# Altium footprint library DC_motor_lib.PcbLib: 21 footprints (part 2 of 2)
Each footprint in its own frame and in the unit in brackets; x right, y up, seen from the top. Pads: shape width x height; smd on the part's side, far side on the other; paste and mask are expansions set on the pad; w line width, h text height; cw(c..) or ccw(c..) is an arc to the next point about the centre after c.
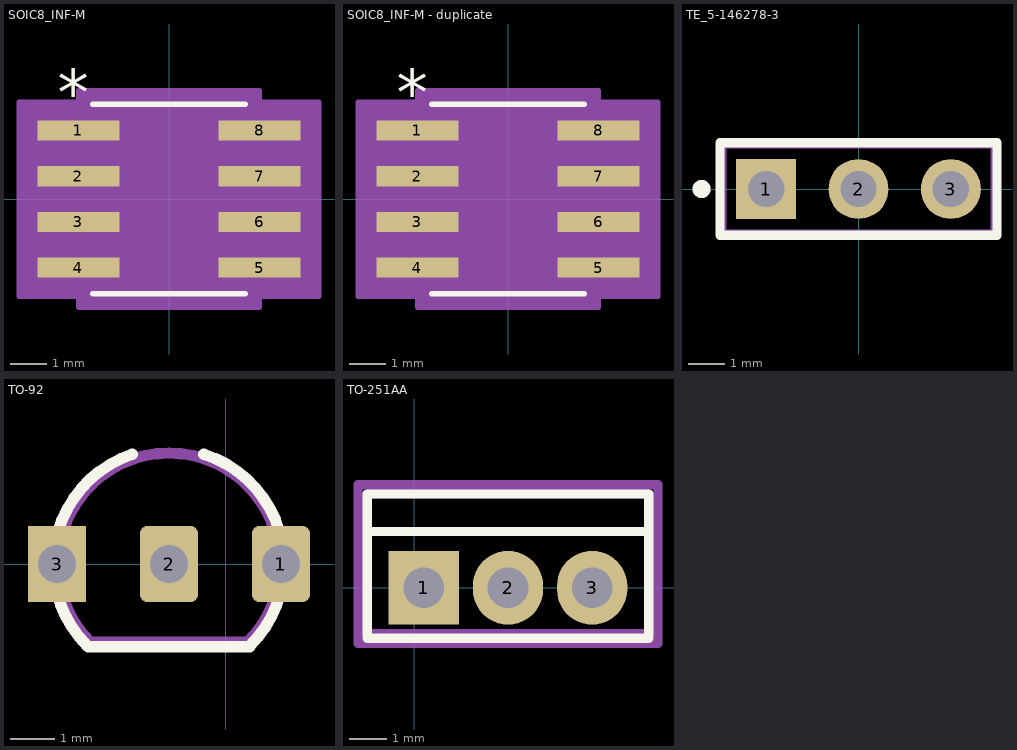
[diagram p1: the footprints below, top view; thin cyan lines are the x and y axes]

## SOIC8_INF-M [mil]
pads (8):
  rect 90x22 smd paste+0 mask+0: 1(-99,75) 2(-99,25) 3(-99,-25) 4(-99,-75) 5(99,-75) 6(99,-25) 7(99,25) 8(99,75)
Top Overlay:
  lines w6: -83.5,-103.5 83.5,-103.5 ; -83.5,103.5 83.5,103.5
  text "*" at -121.5,92 h50
Top 3D Body:
  lines w0: -12,98.5 ccw(c0,98.5) 12,98.5
  lines w1: -122,-85 -78.5,-85 -78.5,-65 -122,-65 -122,-85 ; -122,-35 -78.5,-35 -78.5,-15 -122,-15 -122,-35 ; -122,15 -78.5,15 -78.5,35 -122,35 -122,15 ; -122,65 -78.5,65 -78.5,85 -122,85 -122,65 ; -78.5,-98.5 -78.5,98.5 78.5,98.5 78.5,-98.5 -78.5,-98.5 ; 78.5,-85 122,-85 122,-65 78.5,-65 78.5,-85 ; 78.5,-35 122,-35 122,-15 78.5,-15 78.5,-35 ; 78.5,15 122,15 122,35 78.5,35 78.5,15 ; 78.5,65 122,65 122,85 78.5,85 78.5,65
  text "*" at -76,45.5 h50
Top Courtyard:
  region: -98.5,-106 -164,-106 -164,106 -98.5,106 -98.5,118.5 98.5,118.5 98.5,106 164,106 164,-106 98.5,-106 98.5,-118.5 -98.5,-118.5
  lines w6: -164,-106 -98.5,-106 -98.5,-118.5 98.5,-118.5 98.5,-106 164,-106 164,106 98.5,106 98.5,118.5 -98.5,118.5 -98.5,106 -164,106 -164,-106
3D body "SOIC8_INF.step": height 69.09, standoff 0, extent -122.01,-98.5 122.01,98.5

## SOIC8_INF-M - duplicate [mil]
pads (8):
  rect 90x22 smd paste+0 mask+0: 1(-99,75) 2(-99,25) 3(-99,-25) 4(-99,-75) 5(99,-75) 6(99,-25) 7(99,25) 8(99,75)
Top Overlay:
  lines w6: -83.5,-103.5 83.5,-103.5 ; -83.5,103.5 83.5,103.5
  text "*" at -121.5,92 h50
Top 3D Body:
  lines w0: -12,98.5 ccw(c0,98.5) 12,98.5
  lines w1: -122,-85 -122,-65 -78.5,-65 -78.5,-85 -122,-85 ; -122,-35 -122,-15 -78.5,-15 -78.5,-35 -122,-35 ; -122,15 -122,35 -78.5,35 -78.5,15 -122,15 ; -122,65 -122,85 -78.5,85 -78.5,65 -122,65 ; -78.5,-98.5 78.5,-98.5 78.5,98.5 -78.5,98.5 -78.5,-98.5 ; 78.5,-85 78.5,-65 122,-65 122,-85 78.5,-85 ; 78.5,-35 78.5,-15 122,-15 122,-35 78.5,-35 ; 78.5,15 78.5,35 122,35 122,15 78.5,15 ; 78.5,65 78.5,85 122,85 122,65 78.5,65
  text "*" at -76,45.5 h50
Top Courtyard:
  region: -98.5,-106 -164,-106 -164,106 -98.5,106 -98.5,118.5 98.5,118.5 98.5,106 164,106 164,-106 98.5,-106 98.5,-118.5 -98.5,-118.5
  lines w6: -164,-106 -164,106 -98.5,106 -98.5,118.5 98.5,118.5 98.5,106 164,106 164,-106 98.5,-106 98.5,-118.5 -98.5,-118.5 -98.5,-106 -164,-106
3D body "SOIC8_INF.step": height 69.09, standoff 0, extent -122.01,-98.5 122.01,98.5

## TE_5-146278-3 [mm] "TE CONNECTIVITY"
height 8.128
pads (3):
  rect 1.65x1.65 hole 1: 1(-2.54,0)
  round 1.65 hole 1: 2(0,0) 3(2.54,0)
Top Overlay:
  circle w0.25: c-4.318,0 r0.125
  lines w0.254: -3.81,-1.27 -3.81,1.27 3.81,1.27 3.81,-1.27 -3.81,-1.27
Top Assembly:
  lines w0.102: -3.683,-1.168 -3.683,1.168 3.683,1.168 3.683,-1.168 -3.683,-1.168
3D body "3x_Male_Pin_2.54_mm.STEP": height 8.31, standoff -2.79, extent -3.81,-1.27 3.81,1.13

## TO-92 [mm]
pads (3):
  rrect25% 1.3x1.7 hole 0.85 paste-2539.97 mask+0: 1(1.23,0) 2(-1.27,0)
  rect 1.3x1.7 hole 0.85 paste-2539.97 mask+0: 3(-3.77,0)
Top Overlay:
  lines w0.254: -3.082,-1.842 cw(c-1.27,0) -2.09,2.45 ; -3.07,-1.85 0.53,-1.85 ; -0.49,2.45 cw(c-1.27,0) 0.538,-1.828
Mechanical 10:
  lines w0.254: -3.04,-1.75 0.46,-1.75 ; -3.024,-1.754 cw(c-1.27,0) -1.27,2.48 cw(c-1.27,0) 0.484,-1.754
3D body "21-0248A_MXM.step": height 7.95, standoff -2.59, extent -4.206,-0.979 1.636,2.449

## TO-251AA [mm]
pads (3):
  rect 1.905x2 hole 1.1 paste-2539.97 mask+0: 1(0.26,0)
  rrect100% 1.905x2 hole 1.1 paste-2539.97 mask+0: 2(2.54,0) 3(4.82,0)
Top Overlay:
  lines w0.254: -1.27,1.524 6.35,1.524 ; -1.27,-1.371 -1.27,2.54 6.35,2.54 6.35,-1.371 -1.27,-1.371
Mechanical 10:
  lines w0.254: -1.27,1.524 6.35,1.524 ; -1.27,-1.25 -1.27,2.54 6.35,2.54 6.35,-1.25 -1.27,-1.25
Mechanical 12:
  lines w0.254: -1.524,-1.51 6.604,-1.51 6.604,2.794 -1.524,2.794 -1.524,-1.51
3D body "IRFU3910PBF.STEP": height 9.33, standoff -1.2, extent -0.337,-0.983 5.417,1.397